# Altium schematic symbol library SN74AHCT1G32.SchLib: 1 symbol
Pins are listed as number, name and electrical type; pins without a type are passive.

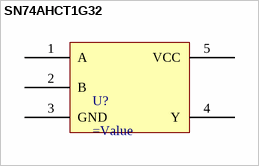
[diagram p0: symbol SN74AHCT1G32]

## SN74AHCT1G32
designator U?
pins: 1 A, 2 B, 3 GND, 4 Y, 5 VCC